# EAGLE library part RJHSE-338X (library MyLib2)
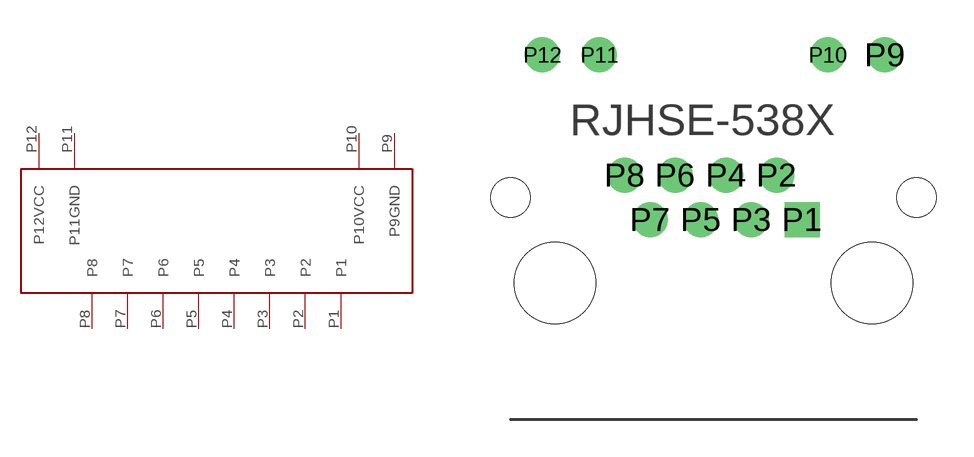
[diagram p1: symbol with the pads of RJHSE-538X; footprint RJHSE-538X]

Designator prefix -

## RJHSE-338X  [RJHSE-538X]
P1  P1
P2  P2
P3  P3
P4  P4
P5  P5
P6  P6
P7  P7
P8  P8
P9  P9GND
P10  P10VCC
P11  P11GND
P12  P12VCC

## Footprint RJHSE-538X (pad centres in mm)
drill 0.89 square: P1 9.9,2.54
drill 0.89: P2 8.88,4.32; P3 7.87,2.54; P4 6.85,4.32; P5 5.84,2.54; P6 4.82,4.32; P7 3.81,2.54; P8 2.79,4.32; P9 13.21,9.14; P10 10.92,9.14; P11 1.78,9.14; P12 -0.51,9.14
hole 3.251 at 0,0
hole 3.251 at 12.7,0
hole 1.57 at -1.78,3.43
hole 1.57 at 14.48,3.43